# EAGLE library part QUAD_NAND (library libami)
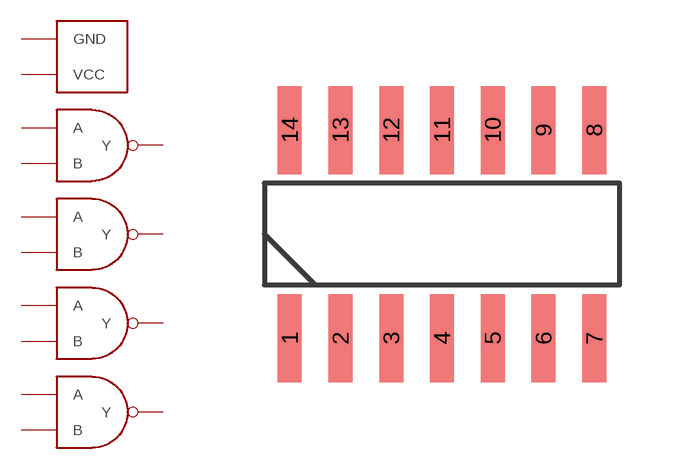
[diagram p19: symbol with the pads of SO-14; footprint SO-14]

Designator prefix -; gates PWR=QUAD_NAND G$1=NAND G$2=NAND G$3=NAND G$4=NAND

## QUAD_NAND  [SO-14]
1  G$1:A  in
2  G$1:B  in
3  G$1:Y  out
4  G$2:A  in
5  G$2:B  in
6  G$2:Y  out
7  PWR:GND  pwr
8  G$3:Y  out
9  G$3:A  in
10  G$3:B  in
11  G$4:Y  out
12  G$4:A  in
13  G$4:B  in
14  PWR:VCC  pwr

## Footprint SO-14 (pad centres in mm)
Small Outline Narrow Plastic Gull Wing 150-mil body, package type SL
smd 0.6 x 2.2: 1 -3.81,-2.6; 2 -2.54,-2.6; 3 -1.27,-2.6; 4 0,-2.6; 5 1.27,-2.6; 6 2.54,-2.6; 7 3.81,-2.6; 8 3.81,2.6; 9 2.54,2.6; 10 1.27,2.6; 11 0,2.6; 12 -1.27,2.6; 13 -2.54,2.6; 14 -3.81,2.6